# Altium footprint library Conn_Molex_22-03-5035_eec_0.PcbLib: 1 footprints
Each footprint in its own frame and in the unit in brackets; x right, y up, seen from the top. Pads: shape width x height; smd on the part's side, far side on the other; paste and mask are expansions set on the pad; w line width, h text height; cw(c..) or ccw(c..) is an arc to the next point about the centre after c.
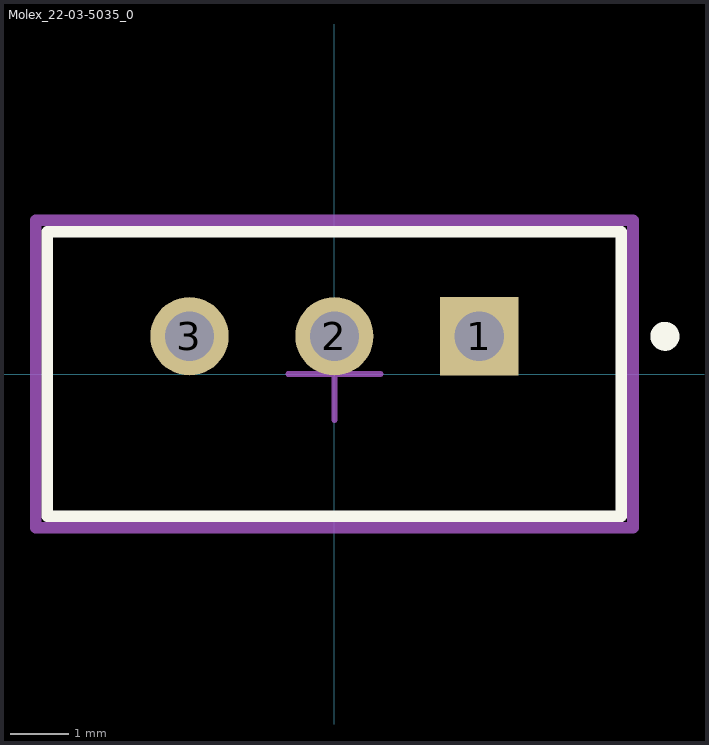
[diagram p0: the footprint, top view; thin cyan lines are the x and y axes]

## Molex_22-03-5035_0 [mm]
pads (3):
  rect 1.35x1.35 hole 0.85 paste-1000 mask+0: 1(2.5,0.65)
  round 1.35 hole 0.85 paste-1000 mask+0: 2(0,0.65) 3(-2.5,0.65)
Top Overlay:
  circle w0.25: c5.7,0.65 r0.125
  lines w0.2: -4.95,-2.45 -4.95,2.45 4.95,2.45 4.95,-2.45 -4.95,-2.45
Mechanical 10:
  lines w0.2: -5.15,-2.65 -5.15,2.65 5.15,2.65 5.15,-2.65 -5.15,-2.65
  text ".Designator" at 0,0 h1
Mechanical 12:
  lines w0.15: -4.95,-2.45 -4.95,2.45 4.95,2.45 4.95,-2.45 -4.95,-2.45
Mechanical 15:
  lines w0.1: -0.795,0 0.795,0 ; 0,-0.795 0,0.795
  lines w0.2: -5.15,-2.65 -5.15,2.65 5.15,2.65 5.15,-2.65 -5.15,-2.65
3D body "3dmodel.step": height 5.96, standoff -3.44, extent -4.95,-2.454 4.95,2.446